# Altium footprint library 2100LL-102-RC.PcbLib: 1 footprints
Each footprint in its own frame and in the unit in brackets; x right, y up, seen from the top. Pads: shape width x height; smd on the part's side, far side on the other; paste and mask are expansions set on the pad; w line width, h text height; cw(c..) or ccw(c..) is an arc to the next point about the centre after c.
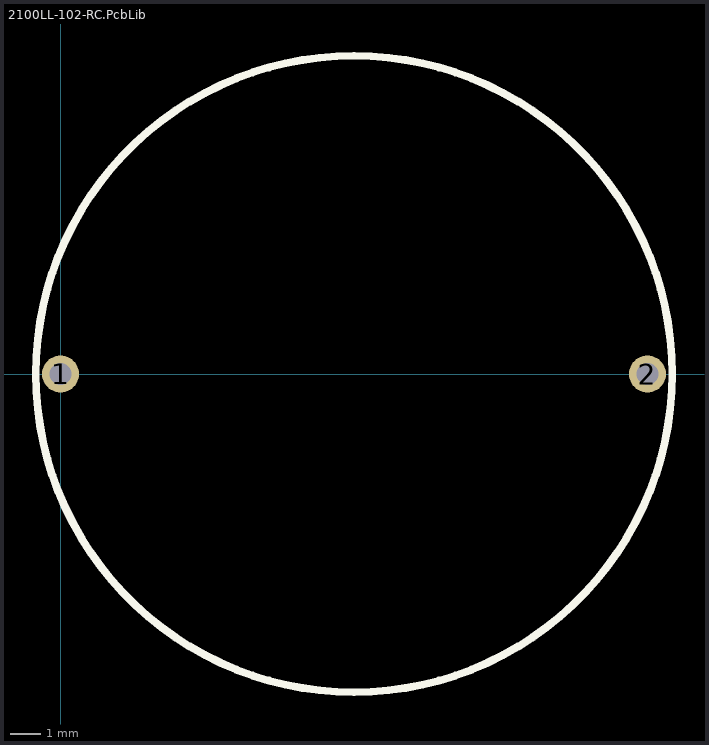
[diagram p0: the footprint, top view; thin cyan lines are the x and y axes]

## 2100LL-102-RC.PcbLib [mm] "19mm pitch"
height 10
pads (2):
  round 1.2 / inner oval 2.25x1.2 / far side round 1.2 hole 0.7: 1(0,0) 2(19,0)
Top Overlay:
  circle w0.254: c9.5,0 r10.3